# Altium schematic symbol library SCHLibrary.SchLib: 19 symbols
Pins are listed as number, name and electrical type; pins without a type are passive.

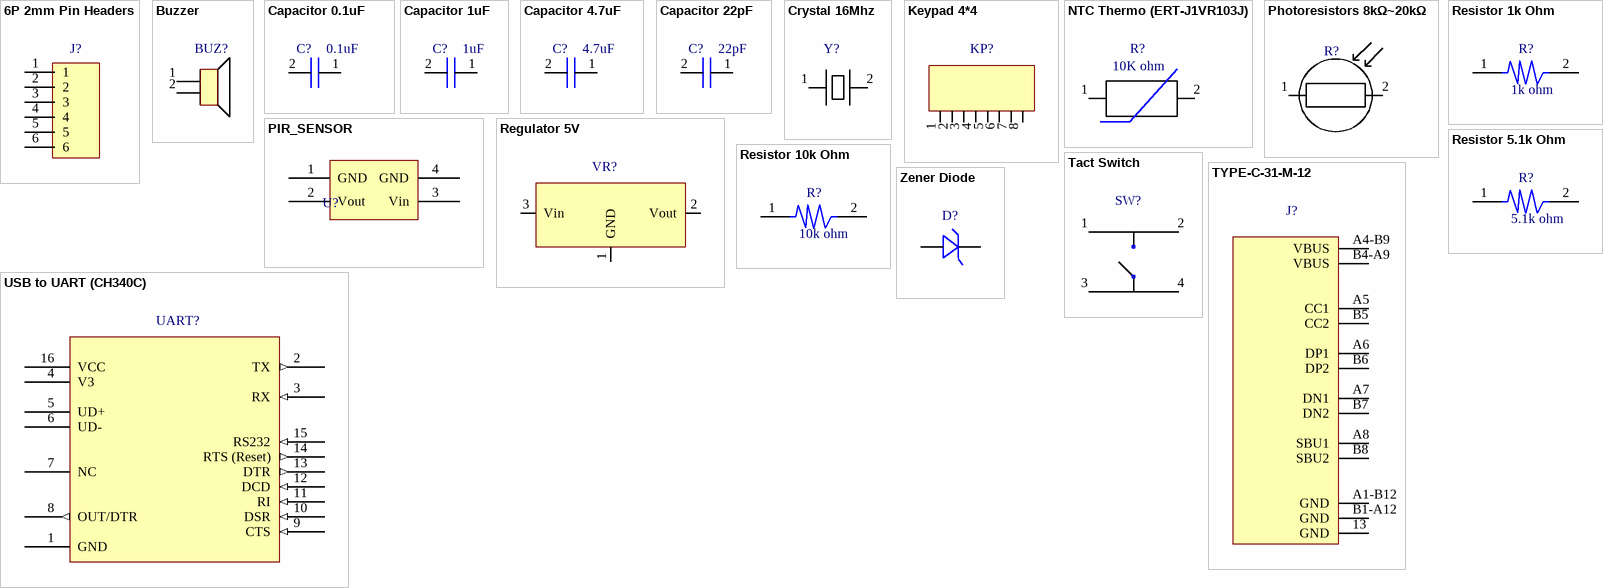
[diagram p0: symbols 6P 2mm Pin Headers to Zener Diode]

## 6P 2mm Pin Headers
designator J?
Connector Header Through Hole 6 position 0.079" (2.00mm); Manufacturer: TE Connectivity AMP Connectors; Manufacturer Part Number: 2355172-6; Supplier: DigiKey; Supplier Part Number: 17-2355172-6-ND
footprint 6P 2mm Pin header
pins: 1, 2, 3, 4, 5, 6

## Buzzer
designator BUZ?
BUZZER PIEZO 1.5V 12X12MM SMD / Buzzers Transducer, Externally Driven Piezo 1.5 V 4kHz 84dB @ 1.5V, 10cm Surface Mount Solder Pads; Manufacturer: Murata Electronics; Manufacturer Product Number: PKLCS1212E4001-R1; Supplier: DigiKey; Supplier Part Number: 490-4683-2-ND - Tape & Reel (TR)
footprint Buzzer
pins: 1, 2

## Capacitor 0.1uF
designator C?, comment 0.1uF
50V 100nF X7R ±10% 0603 Multilayer Ceramic Capacitors MLCC - SMD/SMT ROHS; Manufacturer: YAGEO; Manufacturer Product Number: CC0603KRX7R9BB104; Supplier: LCSC; Supplier Part Number: C14663
footprint Capacitor 0603 SMD
pins: 1, 2

## Capacitor 1uF
designator C?, comment 1uF
16V 1uF X5R ±10% 0603 Multilayer Ceramic Capacitors MLCC - SMD/SMT ROHS; Manufacturer: Samsung Electro-Mechanics; Manufacturer Product Number: CL10A105KO8NNNC; Supplier: LCSC; Supplier Part Number: C1592
footprint Capacitor 0603 SMD
pins: 1, 2

## Capacitor 4.7uF
designator C?, comment 4.7uF
10V 4.7uF X5R ±10% 0603 Multilayer Ceramic Capacitors MLCC - SMD/SMT ROHS; Manufacturer: Samsung Electro-Mechanics; Manufacturer Product Number: CL10A475KP8NNNC; Supplier: LCSC; Supplier Part Number: C1705
footprint Capacitor 0603 SMD
pins: 1, 2

## Capacitor 22pF
designator C?, comment 22pF
50V 22pF NP0 ±5% 0603 Multilayer Ceramic Capacitors MLCC - SMD/SMT ROHS; Manufacturer: YAGEO; Manufacturer Product Number: CC0603JRNPO9BN220; Supplier: LCSC; Supplier Part Number: C105620
footprint Capacitor 0603 SMD
pins: 1, 2

## Crystal 16Mhz
designator Y?
16 MHz ±30ppm Crystal 20pF 50 Ohms HC-49/US; Manufacturer: ECS Inc.; Manufacturer Product Number: ECS-160-20-3X-TR; Supplier: DigiKey; Supplier Part Number: XC1776TR-ND - Tape & Reel (TR)
footprint Crystal 16Mhz
pins: 1, 2

## Keypad 4*4
designator KP?
SWITCH KEYPAD 16KEY 0.005A 12V / Keypad Switch 16 Polymer Keys Conductive Rubber Contacts Matrix Output Non-Illuminated 0.005A @ 12VDC; Manufacturer: Grayhill Inc.; Manufacturer Product Number: 96BB2-056-F; Supplier: DigiKey; Supplier Part Number: GH5010-ND
pins: 1, 2, 3, 4, 5, 6, 7, 8

## NTC Thermo (ERT-J1VR103J)
designator R?, comment 10K ohm
THERMISTOR NTC 10KOHM 4250K 0603; Manufacturer: Panasonic Electronic Components; Manufacturer Product Number: ERT-J1VR103J; Supplier: DigiKey; Supplier Part Number: P10547TR-ND - Tape & Reel (TR)
footprint Resistor 0603 SMD
pins: 1, 2

## Photoresistors 8kΩ~20kΩ
designator R?
8kΩ~20kΩ 540nm 1MΩ Plugin,P=3mm Photoresistors ROHS; Manufacturer: Senba Sensing Tech; Manufacturer Product Number: GL5528; Supplier: LCSC; Supplier Part Number: C125627
footprint Photoresistor GL5528
pins: 1, 2

## PIR_SENSOR
designator U?
SMD-4P Ambient Light Sensors ROHS; manufacturer: KEMET; Mfr. Part #: PL-N823-01; supplier: JLCPCB; supplier Part #: C509135
pins: 1 GND, 2 Vout, 3 Vin, 4 GND

## Regulator 5V
designator VR?
1A Fixed 5V Positive electrode 18V SOT-89 Voltage Regulators - Linear, Low Drop Out (LDO) Regulators ROHS; Manufacturer: MSKSEMI; Manufacturer Product Number: AMS1117-5.0V; Supplier: LCSC; Supplier Part Number: C7473143
footprint Regulator 5V AMS1117
pins: 1 GND, 2 Vout, 3 Vin

## Resistor 1k Ohm
designator R?, comment 1k ohm
100mW Thick Film Resistors 75V ±100ppm/℃ ±1% 1kΩ 0603 Chip Resistor - Surface Mount ROHS; Manufacturer: UNI-ROYAL(Uniroyal Elec); Manufacturer Product Number: 0603WAF1001T5E; Supplier: LCSC; Supplier Part Number: C21190
footprint Resistor 0603 SMD
pins: 1, 2

## Resistor 5.1k Ohm
designator R?, comment 5.1k ohm
100mW Thick Film Resistors 75V ±100ppm/℃ ±1% 5.1kΩ 0603 Chip Resistor - Surface Mount ROHS; Manufacturer: UNI-ROYAL(Uniroyal Elec); Manufacturer Product Number: 0603WAF5101T5E; Supplier: LCSC; Supplier Part Number: C23186
footprint Resistor 0603 SMD
pins: 1, 2

## Resistor 10k Ohm
designator R?, comment 10k ohm
100mW Thick Film Resistors 75V ±100ppm/℃ ±1% 10kΩ 0603 Chip Resistor - Surface Mount ROHS; Manufacturer: UNI-ROYAL(Uniroyal Elec); Manufacturer Product Number: 0603WAF1002T5E; Supplier: LCSC; Supplier Part Number: C25804
footprint Resistor 0603 SMD
pins: 1, 2

## Tact Switch
designator SW?
SWITCH TACTILE SPST-NO 0.05A 12V / Tactile Switch SPST-NO Top Actuated Surface Mount; Manufacturer: C&K; Manufacturer Product Number: PTS 647 SN50 SMTR2 LFS; Supplier: DigiKey; Supplier Part Number: PTS647SN50SMTR2LFSTR-ND - Tape & Reel (TR)
footprint Tact Switch
pins: 1, 2, 3, 4

## TYPE-C-31-M-12
designator J?  (value not drawn)
5A 1 16P Female Type-C SMD USB Connectors ROHS; Manufacturer: Korean Hroparts Elec; Manufacturer Product Number: TYPE-C-31-M-12; Supplier: LCSC; Supplier Part Number: C165948
footprint USB TYPE C-31-M-12
pins: 13 GND, A1-B12 GND, A4-B9 VBUS, A5 CC1, A6 DP1, A7 DN1, A8 SBU1, B1-A12 GND, B4-A9 VBUS, B5 CC2, B6 DP2, B7 DN2, B8 SBU2

## USB to UART (CH340C)
designator UART?
2Mbps Transceiver USB 2.0 SOP-16 USB Converters ROHS; Manufacturer: WCH(Jiangsu Qin Heng); Manufacturer Product Number: CH340C; Supplier: LCSC; Supplier Part Number: C84681
footprint (USB-UART) CH340C
pins: 1 GND, 2 TX (out), 3 RX (in), 4 V3, 5 UD+, 6 UD-, 7 NC, 8 OUT/DTR (out), 9 CTS (in), 10 DSR (in), 11 RI (in), 12 DCD (in), 13 DTR (out), 14 RTS (Reset) (out), 15 RS232 (in), 16 VCC

## Zener Diode
designator D?
DIODE ZENER 5.1V 500MW SOD123; Manufacturer: Diodes Incorporated; Manufacturer Product Number: MMSZ5231B-7-F; Supplier: DigiKey; Supplier Part Number: MMSZ5231B-FDITR-ND - Tape & Reel (TR)
footprint Zener Diode
pins: 1, 2